# Altium schematic symbol library CSTCE.Schlib: 1 symbol
Pins are listed as number, name and electrical type; pins without a type are passive.

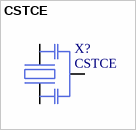
[diagram p0: symbol CSTCE]

## CSTCE
designator X?
pins: 1, 2, 3